# Altium footprint library SamacSys.PcbLib: 53 footprints (part 1 of 4)
Each footprint in its own frame and in the unit in brackets; x right, y up, seen from the top. Pads: shape width x height; smd on the part's side, far side on the other; paste and mask are expansions set on the pad; w line width, h text height; cw(c..) or ccw(c..) is an arc to the next point about the centre after c.
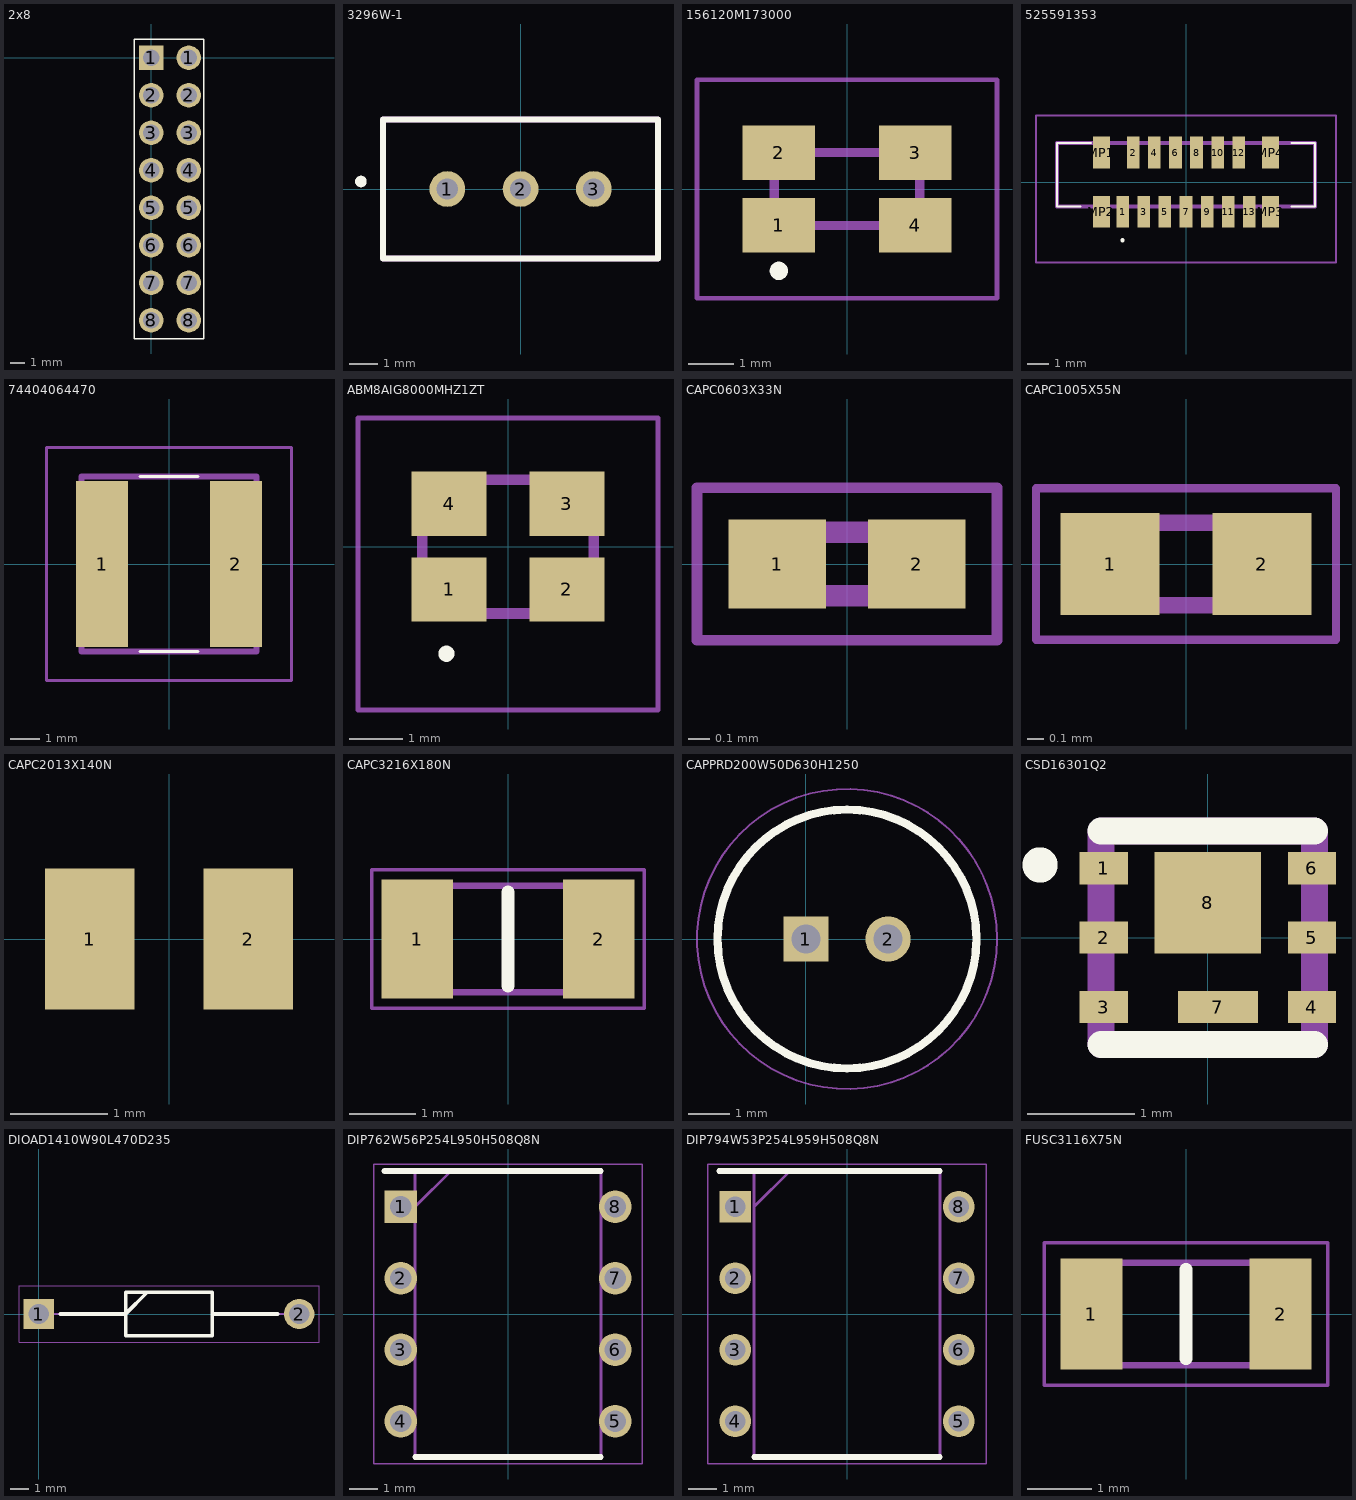
[diagram p0: the footprints below, top view; thin cyan lines are the x and y axes]

## 2x8 [mm]
pads (16):
  rect 1.65x1.65 hole 1.1: 1(0,0)
  round 1.65 hole 1.1: 1(2.54,0) 2(0,-2.54) 2(2.54,-2.54) 3(0,-5.08) 3(2.54,-5.08) 4(0,-7.62) 4(2.54,-7.62) 5(0,-10.16) 5(2.54,-10.16) 6(0,-12.7) 6(2.54,-12.7) 7(0,-15.24) 7(2.54,-15.24) 8(0,-17.78) 8(2.54,-17.78)
Top Overlay:
  lines w0.1: 0.635,1.27 3.556,1.27 3.556,-19.05 -1.143,-19.05 -1.143,1.27 1.905,1.27

## 3296W-1 [mm]
pads (3):
  round 1.24 hole 0.74: 1(-2.54,0) 2(0,0) 3(2.54,0)
Top Overlay:
  circle w0.2: c-5.536,0.26 r0.1
  lines w0.2: -4.765,-2.41 -4.765,2.41 4.765,2.41 4.765,-2.41 -4.765,-2.41
Mechanical 13:
  lines w0.2: -4.765,-2.41 -4.765,2.41 4.765,2.41 4.765,-2.41 -4.765,-2.41

## 156120M173000 [mm]
pads (4):
  rect 1.6x1.2 smd: 1(-1.5,-0.8) 2(-1.5,0.8) 3(1.5,0.8) 4(1.5,-0.8)
Top Overlay:
  lines w0.2: -1.6,-1.8 cw(c-1.5,-1.8) -1.4,-1.8 cw(c-1.5,-1.8) -1.6,-1.8
Mechanical 13:
  lines w0.2: -1.6,-0.8 -1.6,0.8 1.6,0.8 1.6,-0.8 -1.6,-0.8
Mechanical 15:
  lines w0.1: -3.3,-2.4 -3.3,2.4 3.3,2.4 3.3,-2.4 -3.3,-2.4
3D body "156120M173000.stp": height 1.35, standoff 0, extent -1.6,-0.8 1.6,0.8

## 525591353 [mm]
pads (17):
  rect 0.6x1.5 smd: 1(-3,-1.4) 2(-2.5,1.4) 3(-2,-1.4) 4(-1.5,1.4) 5(-1,-1.4) 6(-0.5,1.4) 7(0,-1.4) 8(0.5,1.4) 9(1,-1.4) 10(1.5,1.4) 11(2,-1.4) 12(2.5,1.4) 13(3,-1.4)
  rect 0.8x1.5 smd: MP1(-4,1.4) MP2(-4,-1.4) MP3(4,-1.4) MP4(4,1.4)
Top Overlay:
  lines w0.1: -5,-1.15 -6.1,-1.15 -6.1,1.85 -4.5,1.85 ; 5,-1.15 6.1,-1.15 6.1,1.85 5,1.85 ; -3,-2.8 ccw(c-3,-2.75) -3,-2.7 ccw(c-3,-2.75) -3,-2.8
Mechanical 13:
  lines w0.2: -6.1,-1.15 -6.1,1.85 6.1,1.85 6.1,-1.15 -6.1,-1.15
Mechanical 15:
  lines w0.1: -7.1,-3.8 -7.1,3.15 7.1,3.15 7.1,-3.8 -7.1,-3.8
3D body "52559-1353.stp": height 5.6, standoff 0, extent -6.1,-2.09 6.1,2.09

## 74404064470 [mm]
pads (2):
  rect 1.8x5.7 smd: 1(-2.3,0) 2(2.3,0)
Top Overlay:
  lines w0.1: -1,-3 1,-3 ; -1,3 1,3
Mechanical 13:
  lines w0.2: -3,-3 -3,3 3,3 3,-3 -3,-3
Mechanical 15:
  lines w0.1: -4.2,-4 -4.2,4 4.2,4 4.2,-4 -4.2,-4
3D body "74404064100.stp": height 4.1, standoff 0, extent -3.02,-3 3.02,3

## ABM8AIG8000MHZ1ZT [mm]
pads (4):
  rect 1.4x1.2 smd: 1(-1.1,-0.8) 2(1.1,-0.8) 3(1.1,0.8) 4(-1.1,0.8)
Top Overlay:
  lines w0.2: -1.2,-2 ccw(c-1.15,-2) -1.1,-2 ; -1.2,-2 cw(c-1.15,-2) -1.1,-2 ; -1.2,-2 ccw(c-1.15,-2) -1.1,-2
Mechanical 13:
  lines w0.2: -1.6,-1.25 1.6,-1.25 1.6,1.25 -1.6,1.25 -1.6,-1.25
Mechanical 15:
  lines w0.1: -2.8,-3.05 2.8,-3.05 2.8,2.4 -2.8,2.4 -2.8,-3.05
3D body "ABM8GAIG-16.000MHZ-8-7Z-T.stp": height 0.9, standoff 0, extent -1.68,-1.28 1.68,1.28

## CAPC0603X33N [mm]
pads (2):
  rect 0.46x0.42 smd: 1(-0.33,0) 2(0.33,0)
Mechanical 13:
  lines w0.1: -0.3,-0.15 -0.3,0.15 0.3,0.15 0.3,-0.15 -0.3,-0.15
Mechanical 15:
  lines w0.05: -0.71,-0.36 -0.71,0.36 0.71,0.36 0.71,-0.36 -0.71,-0.36
3D body "GRM033R61E224KE01D.stp": height 0.33, standoff 0, extent -0.3,-0.15 0.3,0.15

## CAPC1005X55N [mm]
pads (2):
  rect 0.6x0.62 smd: 1(-0.46,0) 2(0.46,0)
Mechanical 13:
  lines w0.1: -0.5,-0.25 0.5,-0.25 0.5,0.25 -0.5,0.25 -0.5,-0.25
Mechanical 15:
  lines w0.05: -0.91,-0.46 0.91,-0.46 0.91,0.46 -0.91,0.46 -0.91,-0.46
3D body "GRM155R60J106ME05J.stp": height 0.55, standoff 0, extent -0.5,-0.25 0.5,0.25

## CAPC2013X140N [mil]
pads (2):
  rect 36x57 smd: 1(-32,0) 2(32,0)
3D body "C0805C476M9PACTU.stp": height 1743.34, standoff 1686.25, extent -3854.66,419.06 -3768.05,476.15

## CAPC3216X180N [mm]
pads (2):
  rect 1.07x1.78 smd: 1(-1.36,0) 2(1.36,0)
Top Overlay:
  lines w0.2: 0,-0.7 0,0.7
Mechanical 13:
  lines w0.1: -1.6,-0.8 -1.6,0.8 1.6,0.8 1.6,-0.8 -1.6,-0.8
Mechanical 15:
  lines w0.05: -2.045,-1.04 -2.045,1.04 2.045,1.04 2.045,-1.04 -2.045,-1.04
3D body "LMK316BC6476ML-T.stp": height 1.8, standoff 0, extent -1.6,-0.8 1.6,0.8

## CAPPRD200W50D630H1250 [mm]
pads (2):
  rect 1.1x1.1 hole 0.7: 1(0,0)
  round 1.1 hole 0.7: 2(2,0)
Top Overlay:
  circle w0.2: c1,0 r3.15
Mechanical 13:
  circle w0.1: c1,0 r3.15
Mechanical 15:
  circle w0.05: c1,0 r3.65
3D body "ESL106M100AE3AA.stp": height 12.5, standoff -10, extent -2.4,-3.4 4.4,3.4

## CSD16301Q2 [mm]
pads (8):
  rect 0.45x0.3 smd: 1(-0.975,0.65) 2(-0.975,0) 3(-0.975,-0.65) 4(0.975,-0.65) 5(0.975,0) 6(0.975,0.65)
  rect 0.75x0.3 smd: 7(0.095,-0.65)
  rect 1x0.95 smd: 8(0,0.325)
Top Overlay:
  circle w0.254: c-1.571,0.681 r0.038
  lines w0.254: -1,-1 1,-1 ; -1,1 1,1
Mechanical 13:
  lines w0.254: -1,-1 -1,1 1,1 1,-1 -1,-1

## DIOAD1410W90L470D235 [mm]
pads (2):
  rect 1.65x1.65 hole 1.1: 1(0,0)
  round 1.65 hole 1.1: 2(14.1,0)
Top Overlay:
  lines w0.2: 1.175,0 4.7,0 5.875,1.175 ; 9.4,0 12.925,0 ; 4.7,-1.175 4.7,1.175 9.4,1.175 9.4,-1.175 4.7,-1.175
Mechanical 13:
  lines w0.1: 0,0 4.7,0 5.875,1.175 ; 9.4,0 14.1,0 ; 4.7,-1.175 4.7,1.175 9.4,1.175 9.4,-1.175 4.7,-1.175
Mechanical 15:
  lines w0.05: -1.075,-1.525 -1.075,1.525 15.175,1.525 15.175,-1.525 -1.075,-1.525
3D body "1N5817.stp": height 2.69, standoff -2.7, extent -0.446,-1.347 14.55,1.347

## DIP762W56P254L950H508Q8N [mm]
pads (8):
  rect 1.16x1.16 hole 0.76: 1(-3.81,3.81)
  round 1.16 hole 0.76: 2(-3.81,1.27) 3(-3.81,-1.27) 4(-3.81,-3.81) 5(3.81,-3.81) 6(3.81,-1.27) 7(3.81,1.27) 8(3.81,3.81)
Top Overlay:
  lines w0.2: -4.39,5.08 3.3,5.08 ; -3.3,-5.08 3.3,-5.08
Mechanical 13:
  lines w0.1: -3.3,3.81 -2.03,5.08 ; -3.3,-5.08 3.3,-5.08 3.3,5.08 -3.3,5.08 -3.3,-5.08
Mechanical 15:
  lines w0.05: -4.765,-5.33 4.765,-5.33 4.765,5.33 -4.765,5.33 -4.765,-5.33
3D body "TC1044SCPA.stp": height 5.08, standoff -3.5, extent -3.95,-4.75 3.95,4.75

## DIP794W53P254L959H508Q8N [mm]
pads (8):
  rect 1.13x1.13 hole 0.73: 1(-3.97,3.81)
  round 1.13 hole 0.73: 2(-3.97,1.27) 3(-3.97,-1.27) 4(-3.97,-3.81) 5(3.97,-3.81) 6(3.97,-1.27) 7(3.97,1.27) 8(3.97,3.81)
Top Overlay:
  lines w0.2: -4.535,5.08 3.3,5.08 ; -3.3,-5.08 3.3,-5.08
Mechanical 13:
  lines w0.1: -3.3,3.81 -2.03,5.08 ; -3.3,-5.08 3.3,-5.08 3.3,5.08 -3.3,5.08 -3.3,-5.08
Mechanical 15:
  lines w0.05: -4.945,-5.33 4.945,-5.33 4.945,5.33 -4.945,5.33 -4.945,-5.33
3D body "UA741CPE4.stp": height 5.08, standoff -3.5, extent -4.102,-4.795 4.102,4.795

## FUSC3116X75N [mm]
pads (2):
  rect 0.97x1.73 smd: 1(-1.48,0) 2(1.48,0)
Top Overlay:
  lines w0.2: 0,-0.7 0,0.7
Mechanical 13:
  lines w0.1: -1.55,-0.8 1.55,-0.8 1.55,0.8 -1.55,0.8 -1.55,-0.8
Mechanical 15:
  lines w0.05: -2.215,-1.115 2.215,-1.115 2.215,1.115 -2.215,1.115 -2.215,-1.115
3D body "RQ73C2B15R4BTDF.stp": height 0.75, standoff 0, extent -1.55,-0.8 1.55,0.8